# Altium schematic symbol library SIM_CHIP.SchLib: 1 symbol
Pins are listed as number, name and electrical type; pins without a type are passive.

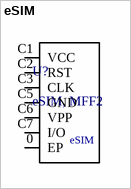
[diagram p0: symbol eSIM]

## eSIM
designator U?, comment eSIM, MFF2
Manufacturer: Provided by us; Part Number: eSIM; Price 1: 0; Price 100: 0; Price 1000: 0
footprint MFF2 (eSIM card MFF2 size)
pins: 0 EP, C1 VCC, C2 RST, C3 CLK, C5 GND, C6 VPP, C7 I/O